# Altium schematic symbol library SHT10.SchLib: 1 symbol
Pins are listed as number, name and electrical type; pins without a type are passive.

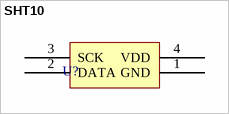
[diagram p0: symbol SHT10]

## SHT10
designator U?  (value not drawn)
footprint SOIC127P600-8N (SOIC, 8-Leads, Body 4.9x3.9mm, Pitch 1.27mm, IPC Medium Density)
pins: 1 GND, 2 DATA, 3 SCK, 4 VDD